# EAGLE library part BME280 (library isystems-sensors)
Bosh BME280 Combined humidity and pressure sensor Key Features Package: 2.5 mm x 2.5 mm x 0.93 mm metal lid LGA Digital Interace: I²C (up to 3.4MHz) and SPI (3 and 4 wire, up to 10 MHz) VDD main supply voltage range: 1.71V to 3.6V VDDIO interface supply voltage: 1.2V to 3.6V Current consumption: 1.8µA @ 1 Hz humidity and temperature 2.8µA @ 1 Hz pressure and temperature 3.6µA @ 1 Hz humidity, pressure and temperature 0.1µA in sleep mode Operating range: -40…+85°C, 0…100% rel. humidity, 300…1100 hPa Humidity sensor and pressure sensor can be independently enabled / disabled Register and performance compatible to Bosch Sensortec BMP280 digital pressure sensor RopHS compliant, halogen-free, MSL1
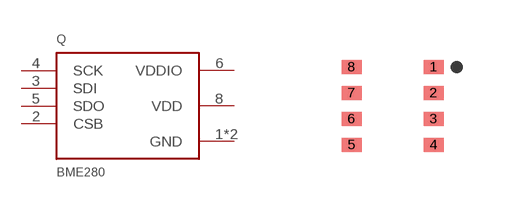
[diagram p0: symbol with the pads of BME280; footprint BME280]

Designator prefix Q

## BME280  [BME280]
1  GND  pwr
2  CSB  in
3  SDI
4  SCK  in
5  SDO
6  VDDIO  pwr
7  GND  pwr
8  VDD  pwr

## Footprint BME280 (pad centres in mm)
Bosch BME280
smd 0.5 x 0.35: 1 1.025,0.975; 2 1.025,0.325; 3 1.025,-0.325; 4 1.025,-0.975; 5 -1.025,-0.975; 6 -1.025,-0.325; 7 -1.025,0.325; 8 -1.025,0.975